# Altium schematic symbol library Resistor - Surface Mount - 0201.SchLib: 301 symbols (part 3 of 5)
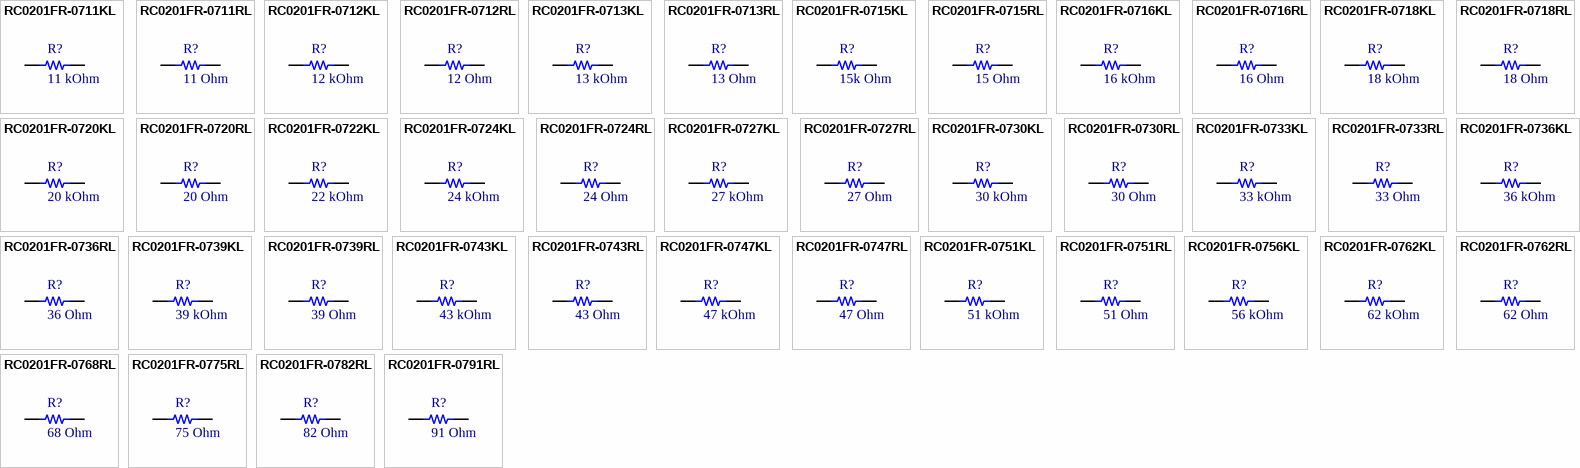
[diagram p9: symbols RC0201FR-0711KL to RC0201FR-0791RL]

## RC0201FR-0739KL
designator R?, comment 39 kOhm
RES 39K OHM 1% 1/20W 0201; Manufacturer: Yageo; Part Number: RC0201FR-0739KL; Power (Watt): 0.05W; ComponentLink1Description: Datasheet; ComponentLink1URL: https://www.yageo.com/upload/media/product/products/datasheet/rchip/PYu-RC_Group_51_RoHS_L_12.pdf; ComponentLink2Description: Digikey link; ComponentLink2URL: https://www.digikey.com/en/products/detail/yageo/RC0201FR-0739KL/5280501; ComponentLink3Description: LCSC link; ComponentLink3URL: https://lcsc.com/product-detail/Chip-Resistor-Surface-Mount_YAGEO-RC0201FR-0739KL_C163500.html?s_z=n_RC0201FR-0739KL; Value: 39 kOhm; Package: 0201 (0603 Metric); Tolerance: ±1%; Operating Temperature: -55°C ~ 125°C; Supplier 1: Digikey; Supplier Part Number 1: YAG2641CT-ND
footprint R0201
pins: 1, 2

## RC0201FR-0739RL
designator R?, comment 39 Ohm
RES 39 OHM 1% 1/20W 0201; Manufacturer: Yageo; Part Number: RC0201FR-0739RL; Power (Watt): 0.05W; ComponentLink1Description: Datasheet; ComponentLink1URL: https://www.yageo.com/upload/media/product/products/datasheet/rchip/PYu-RC_Group_51_RoHS_L_12.pdf; ComponentLink2Description: Digikey link; ComponentLink2URL: https://www.digikey.com/en/products/detail/yageo/RC0201FR-0739RL/5280503; ComponentLink3Description: LCSC link; ComponentLink3URL: https://lcsc.com/product-detail/Chip-Resistor-Surface-Mount_YAGEO-RC0201FR-0739RL_C138145.html?s_z=n_RC0201FR-0739RL; Value: 39 Ohm; Package: 0201 (0603 Metric); Tolerance: ±1%; Operating Temperature: -55°C ~ 125°C; Supplier 1: Future Electronics; Supplier Part Number 1: 8072244
footprint R0201
pins: 1, 2

## RC0201FR-0743KL
designator R?, comment 43 kOhm
RES 43K OHM 1% 1/20W 0201; Manufacturer: Yageo; Part Number: RC0201FR-0743KL; Power (Watt): 0.05W; ComponentLink1Description: Datasheet; ComponentLink1URL: https://www.yageo.com/upload/media/product/products/datasheet/rchip/PYu-RC_Group_51_RoHS_L_12.pdf; ComponentLink2Description: Digikey link; ComponentLink2URL: https://www.digikey.com/en/products/detail/yageo/RC0201FR-0743KL/5280533; ComponentLink3Description: LCSC link; ComponentLink3URL: https://lcsc.com/product-detail/Chip-Resistor-Surface-Mount_YAGEO-RC0201FR-0743KL_C138142.html?s_z=n_RC0201FR-0743KL; Value: 43 kOhm; Package: 0201 (0603 Metric); Tolerance: ±1%; Operating Temperature: -55°C ~ 125°C; Supplier 1: Digikey; Supplier Part Number 1: YAG2673CT-ND
footprint R0201
pins: 1, 2

## RC0201FR-0743RL
designator R?, comment 43 Ohm
RES 43 OHM 1% 1/20W 0201; Manufacturer: Yageo; Part Number: RC0201FR-0743RL; Power (Watt): 0.05W; ComponentLink1Description: Datasheet; ComponentLink1URL: https://www.yageo.com/upload/media/product/products/datasheet/rchip/PYu-RC_Group_51_RoHS_L_12.pdf; ComponentLink2Description: Digikey link; ComponentLink2URL: https://www.digikey.com/en/products/detail/yageo/RC0201FR-0743RL/5280535; ComponentLink3Description: LCSC link; ComponentLink3URL: https://lcsc.com/product-detail/Chip-Resistor-Surface-Mount_YAGEO-RC0201FR-0743RL_C295801.html?s_z=n_RC0201FR-0743RL; Value: 43 Ohm; Package: 0201 (0603 Metric); Tolerance: ±1%; Operating Temperature: -55°C ~ 125°C; Supplier 1: Digikey; Supplier Part Number 1: YAG2675CT-ND
footprint R0201
pins: 1, 2

## RC0201FR-0747KL
designator R?, comment 47 kOhm
RES 47K OHM 1% 1/20W 0201; Manufacturer: Yageo; Part Number: RC0201FR-0747KL; Power (Watt): 0.05W; ComponentLink1Description: Datasheet; ComponentLink1URL: https://www.yageo.com/upload/media/product/products/datasheet/rchip/PYu-RC_Group_51_RoHS_L_12.pdf; ComponentLink2Description: Digikey link; ComponentLink2URL: https://www.digikey.com/en/products/detail/yageo/RC0201FR-0747KL/3202409; ComponentLink3Description: LCSC link; ComponentLink3URL: https://lcsc.com/product-detail/Chip-Resistor-Surface-Mount_YAGEO-RC0201FR-0747KL_C138139.html?s_z=n_RC0201FR-0747KL; Value: 47 kOhm; Package: 0201 (0603 Metric); Tolerance: ±1%; Operating Temperature: -55°C ~ 125°C; Supplier 1: Digikey; Supplier Part Number 1: 311-47KMCT-ND
footprint R0201
pins: 1, 2

## RC0201FR-0747RL
designator R?, comment 47 Ohm
RES 47 OHM 1% 1/20W 0201; Manufacturer: Yageo; Part Number: RC0201FR-0747RL; Power (Watt): 0.05W; ComponentLink1Description: Datasheet; ComponentLink1URL: https://www.yageo.com/upload/media/product/products/datasheet/rchip/PYu-RC_Group_51_RoHS_L_12.pdf; ComponentLink2Description: Digikey link; ComponentLink2URL: https://www.digikey.com/en/products/detail/yageo/RC0201FR-0747RL/5280554; ComponentLink3Description: LCSC link; ComponentLink3URL: https://lcsc.com/product-detail/Chip-Resistor-Surface-Mount_YAGEO-RC0201FR-0747RL_C273279.html?s_z=n_RC0201FR-0747RL; Value: 47 Ohm; Package: 0201 (0603 Metric); Tolerance: ±1%; Operating Temperature: -55°C ~ 125°C; Supplier 1: Digikey; Supplier Part Number 1: YAG2694CT-ND
footprint R0201
pins: 1, 2

## RC0201FR-0751KL
designator R?, comment 51 kOhm
RES 51K OHM 1% 1/20W 0201; Manufacturer: Yageo; Part Number: RC0201FR-0751KL; Power (Watt): 0.05W; ComponentLink1Description: Datasheet; ComponentLink1URL: https://www.yageo.com/upload/media/product/products/datasheet/rchip/PYu-RC_Group_51_RoHS_L_12.pdf; ComponentLink2Description: Digikey link; ComponentLink2URL: https://www.digikey.com/en/products/detail/yageo/RC0201FR-0751KL/1948895; ComponentLink3Description: LCSC link; ComponentLink3URL: https://lcsc.com/product-detail/Chip-Resistor-Surface-Mount_YAGEO-RC0201FR-0751KL_C295806.html?s_z=n_RC0201FR-0751KL; Value: 51 kOhm; Package: 0201 (0603 Metric); Tolerance: ±1%; Operating Temperature: -55°C ~ 125°C; Supplier 1: Digikey; Supplier Part Number 1: 311-51.0KMCT-ND
footprint R0201
pins: 1, 2

## RC0201FR-0751RL
designator R?, comment 51 Ohm
RES 51 OHM 1% 1/20W 0201; Manufacturer: Yageo; Part Number: RC0201FR-0751RL; Power (Watt): 0.05W; ComponentLink1Description: Datasheet; ComponentLink1URL: https://www.yageo.com/upload/media/product/products/datasheet/rchip/PYu-RC_Group_51_RoHS_L_12.pdf; ComponentLink2Description: Digikey link; ComponentLink2URL: https://www.digikey.com/en/products/detail/yageo/RC0201FR-0751RL/3202413; ComponentLink3Description: LCSC link; ComponentLink3URL: https://lcsc.com/product-detail/Chip-Resistor-Surface-Mount_YAGEO-RC0201FR-0751RL_C163499.html?s_z=n_RC0201FR-0751RL; Value: 51 Ohm; Package: 0201 (0603 Metric); Tolerance: ±1%; Operating Temperature: -55°C ~ 125°C; Supplier 1: Digikey; Supplier Part Number 1: YAG2288CT-ND
footprint R0201
pins: 1, 2

## RC0201FR-0756KL
designator R?, comment 56 kOhm
RES 56K OHM 1% 1/20W 0201; Manufacturer: Yageo; Part Number: RC0201FR-0756KL; Power (Watt): 0.05W; ComponentLink1Description: Datasheet; ComponentLink1URL: https://www.yageo.com/upload/media/product/products/datasheet/rchip/PYu-RC_Group_51_RoHS_L_12.pdf; ComponentLink2Description: Digikey link; ComponentLink2URL: https://www.digikey.com/en/products/detail/yageo/RC0201FR-0756KL/5280592; ComponentLink3Description: LCSC link; ComponentLink3URL: https://lcsc.com/product-detail/Chip-Resistor-Surface-Mount_YAGEO-RC0201FR-0756KL_C474417.html?s_z=n_RC0201FR-0756KL; Value: 56 kOhm; Package: 0201 (0603 Metric); Tolerance: ±1%; Operating Temperature: -55°C ~ 125°C; Supplier 1: Digikey; Supplier Part Number 1: YAG2732CT-ND
footprint R0201
pins: 1, 2

## RC0201FR-0762KL
designator R?, comment 62 kOhm
RES 62K OHM 1% 1/20W 0201; Manufacturer: Yageo; Part Number: RC0201FR-0762KL; Power (Watt): 0.05W; ComponentLink1Description: Datasheet; ComponentLink1URL: https://www.yageo.com/upload/media/product/products/datasheet/rchip/PYu-RC_Group_51_RoHS_L_12.pdf; ComponentLink2Description: Digikey link; ComponentLink2URL: https://www.digikey.com/en/products/detail/yageo/RC0201FR-0762KL/5280614; ComponentLink3Description: LCSC link; ComponentLink3URL: https://lcsc.com/product-detail/Chip-Resistor-Surface-Mount_YAGEO-RC0201FR-0762KL_C295812.html?s_z=n_RC0201FR-0762KL; Value: 62 kOhm; Package: 0201 (0603 Metric); Tolerance: ±1%; Operating Temperature: -55°C ~ 125°C; Supplier 1: Future Electronics; Supplier Part Number 1: 1080538
footprint R0201
pins: 1, 2

## RC0201FR-0762RL
designator R?, comment 62 Ohm
RES 62 OHM 1% 1/20W 0201; Manufacturer: Yageo; Part Number: RC0201FR-0762RL; Power (Watt): 0.05W; ComponentLink1Description: Datasheet; ComponentLink1URL: https://www.yageo.com/upload/media/product/products/datasheet/rchip/PYu-RC_Group_51_RoHS_L_12.pdf; ComponentLink2Description: Digikey link; ComponentLink2URL: https://www.digikey.com/en/products/detail/yageo/RC0201FR-0762RL/5280615; ComponentLink3Description: LCSC link; ComponentLink3URL: https://lcsc.com/product-detail/Chip-Resistor-Surface-Mount_YAGEO-RC0201FR-0762RL_C295813.html?s_z=n_RC0201FR-0762RL; Value: 62 Ohm; Package: 0201 (0603 Metric); Tolerance: ±1%; Operating Temperature: -55°C ~ 125°C; Supplier 1: Arrow Electronics; Supplier Part Number 1: RC0201FR-0762RL
footprint R0201
pins: 1, 2

## RC0201FR-0768RL
designator R?, comment 68 Ohm
RES 68 OHM 1% 1/20W 0201; Manufacturer: Yageo; Part Number: RC0201FR-0768RL; Power (Watt): 0.05W; ComponentLink1Description: Datasheet; ComponentLink1URL: https://www.yageo.com/upload/media/product/products/datasheet/rchip/PYu-RC_Group_51_RoHS_L_12.pdf; ComponentLink2Description: Digikey link; ComponentLink2URL: https://www.digikey.com/en/products/detail/yageo/RC0201FR-0768RL/5280633; ComponentLink3Description: LCSC link; ComponentLink3URL: https://lcsc.com/product-detail/Chip-Resistor-Surface-Mount_YAGEO-RC0201FR-0768RL_C138127.html?s_z=n_RC0201FR-0768RL; Value: 68 Ohm; Package: 0201 (0603 Metric); Tolerance: ±1%; Operating Temperature: -55°C ~ 125°C; Supplier 1: Future Electronics; Supplier Part Number 1: 8744013
footprint R0201
pins: 1, 2

## RC0201FR-0775RL
designator R?, comment 75 Ohm
RES 75 OHM 1% 1/20W 0201; Manufacturer: Yageo; Part Number: RC0201FR-0775RL; Power (Watt): 0.05W; ComponentLink1Description: Datasheet; ComponentLink1URL: https://www.yageo.com/upload/media/product/products/datasheet/rchip/PYu-RC_Group_51_RoHS_L_12.pdf; ComponentLink2Description: Digikey link; ComponentLink2URL: https://www.digikey.com/en/products/detail/yageo/RC0201FR-0775RL/3202423; ComponentLink3Description: LCSC link; ComponentLink3URL: https://lcsc.com/product-detail/Chip-Resistor-Surface-Mount_YAGEO-RC0201FR-0775RL_C274878.html?s_z=n_RC0201FR-0775RL; Value: 75 Ohm; Package: 0201 (0603 Metric); Tolerance: ±1%; Operating Temperature: -55°C ~ 125°C; Supplier 1: Future Electronics; Supplier Part Number 1: 5106774
footprint R0201
pins: 1, 2

## RC0201FR-0782RL
designator R?, comment 82 Ohm
RES 82 OHM 1% 1/20W 0201; Manufacturer: Yageo; Part Number: RC0201FR-0782RL; Power (Watt): 0.05W; ComponentLink1Description: Datasheet; ComponentLink1URL: https://www.yageo.com/upload/media/product/products/datasheet/rchip/PYu-RC_Group_51_RoHS_L_12.pdf; ComponentLink2Description: Digikey link; ComponentLink2URL: https://www.digikey.com/en/products/detail/yageo/RC0201FR-0782RL/5280678; ComponentLink3Description: LCSC link; ComponentLink3URL: https://lcsc.com/product-detail/Chip-Resistor-Surface-Mount_YAGEO-RC0201FR-0782RL_C273281.html?s_z=n_RC0201FR-0782RL; Value: 82 Ohm; Package: 0201 (0603 Metric); Tolerance: ±1%; Operating Temperature: -55°C ~ 125°C; Supplier 1: Digikey; Supplier Part Number 1: YAG2818CT-ND
footprint R0201
pins: 1, 2

## RC0201FR-0791RL
designator R?, comment 91 Ohm
RES 91 OHM 1% 1/20W 0201; Manufacturer: Yageo; Part Number: RC0201FR-0791RL; Power (Watt): 0.05W; ComponentLink1Description: Datasheet; ComponentLink1URL: https://www.yageo.com/upload/media/product/products/datasheet/rchip/PYu-RC_Group_51_RoHS_L_12.pdf; ComponentLink2Description: Digikey link; ComponentLink2URL: https://www.digikey.com/en/products/detail/yageo/RC0201FR-0791RL/5280703; ComponentLink3Description: LCSC link; ComponentLink3URL: https://lcsc.com/product-detail/Chip-Resistor-Surface-Mount_YAGEO-RC0201FR-0791RL_C295820.html?s_z=n_RC0201FR-0791RL; Value: 91 Ohm; Package: 0201 (0603 Metric); Tolerance: ±1%; Operating Temperature: -55°C ~ 125°C; Supplier 1: Digikey; Supplier Part Number 1: YAG2843CT-ND
footprint R0201
pins: 1, 2

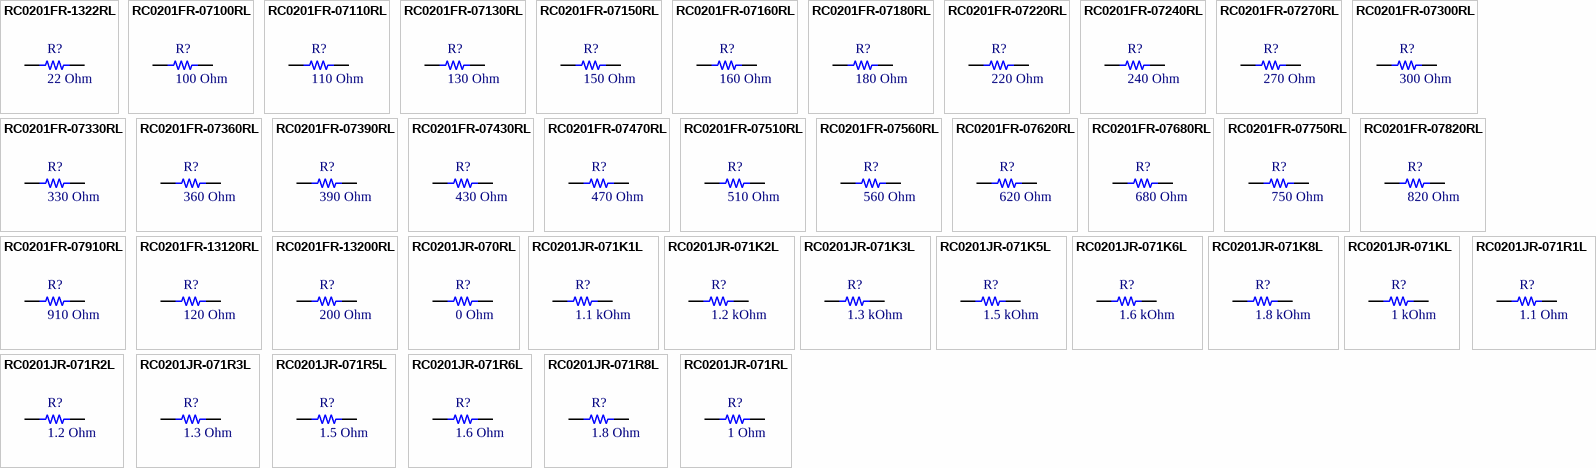
[diagram p4: symbols RC0201FR-1322RL to RC0201JR-071RL]

## RC0201FR-1322RL
designator R?, comment 22 Ohm
RES 22 OHM 1% 1/20W 0201; Manufacturer: Yageo; Part Number: RC0201FR-1322RL; Power (Watt): 0.05W; ComponentLink1Description: Datasheet; ComponentLink1URL: https://www.yageo.com/upload/media/product/products/datasheet/rchip/PYu-RC_Group_51_RoHS_L_12.pdf; ComponentLink2Description: Digikey link; ComponentLink2URL: https://www.digikey.com/en/products/detail/yageo/RC0201FR-1322RL/17013277; ComponentLink3Description: LCSC link; ComponentLink3URL: *; Value: 22 Ohm; Package: 0201 (0603 Metric); Tolerance: ±1%; Operating Temperature: -55°C ~ 125°C; Supplier 1: Digikey; Supplier Part Number 1: 13-RC0201FR-1322RLCT-ND
footprint R0201
pins: 1, 2

## RC0201FR-07100RL
designator R?, comment 100 Ohm
RES 100 OHM 1% 1/20W 0201; Manufacturer: Yageo; Part Number: RC0201FR-07100RL; Power (Watt): 0.05W; ComponentLink1Description: Datasheet; ComponentLink1URL: https://www.yageo.com/upload/media/product/products/datasheet/rchip/PYu-RC_Group_51_RoHS_L_12.pdf; ComponentLink2Description: Digikey link; ComponentLink2URL: https://www.digikey.com/en/products/detail/yageo/RC0201FR-07100RL/1948860; ComponentLink3Description: LCSC link; ComponentLink3URL: https://lcsc.com/product-detail/Chip-Resistor-Surface-Mount_YAGEO-RC0201FR-07100RL_C77623.html?s_z=n_RC0201FR-07100RL; Value: 100 Ohm; Package: 0201 (0603 Metric); Tolerance: ±1%; Operating Temperature: -55°C ~ 125°C; Supplier 1: Future Electronics; Supplier Part Number 1: 6073498
footprint R0201
pins: 1, 2

## RC0201FR-07110RL
designator R?, comment 110 Ohm
RES 110 OHM 1% 1/20W 0201; Manufacturer: Yageo; Part Number: RC0201FR-07110RL; Power (Watt): 0.05W; ComponentLink1Description: Datasheet; ComponentLink1URL: https://www.yageo.com/upload/media/product/products/datasheet/rchip/PYu-RC_Group_51_RoHS_L_12.pdf; ComponentLink2Description: Digikey link; ComponentLink2URL: https://www.digikey.com/en/products/detail/yageo/RC0201FR-07110RL/5280239; ComponentLink3Description: LCSC link; ComponentLink3URL: https://lcsc.com/product-detail/Chip-Resistor-Surface-Mount_YAGEO-RC0201FR-07110RL_C295716.html?s_z=n_RC0201FR-07110RL; Value: 110 Ohm; Package: 0201 (0603 Metric); Tolerance: ±1%; Operating Temperature: -55°C ~ 125°C; Supplier 1: Digikey; Supplier Part Number 1: YAG2379CT-ND
footprint R0201
pins: 1, 2

## RC0201FR-07130RL
designator R?, comment 130 Ohm
RES 130 OHM 1% 1/20W 0201; Manufacturer: Yageo; Part Number: RC0201FR-07130RL; Power (Watt): 0.05W; ComponentLink1Description: Datasheet; ComponentLink1URL: https://www.yageo.com/upload/media/product/products/datasheet/rchip/PYu-RC_Group_51_RoHS_L_12.pdf; ComponentLink2Description: Digikey link; ComponentLink2URL: https://www.digikey.com/en/products/detail/yageo/RC0201FR-07130RL/5280254; ComponentLink3Description: LCSC link; ComponentLink3URL: https://lcsc.com/product-detail/Chip-Resistor-Surface-Mount_YAGEO-RC0201FR-07130RL_C273314.html?s_z=n_RC0201FR-07130RL; Value: 130 Ohm; Package: 0201 (0603 Metric); Tolerance: ±1%; Operating Temperature: -55°C ~ 125°C; Supplier 1: Digikey; Supplier Part Number 1: YAG2394CT-ND
footprint R0201
pins: 1, 2

## RC0201FR-07150RL
designator R?, comment 150 Ohm
RES 150 OHM 1% 1/20W 0201; Manufacturer: Yageo; Part Number: RC0201FR-07150RL; Power (Watt): 0.05W; ComponentLink1Description: Datasheet; ComponentLink1URL: https://www.yageo.com/upload/media/product/products/datasheet/rchip/PYu-RC_Group_51_RoHS_L_12.pdf; ComponentLink2Description: Digikey link; ComponentLink2URL: https://www.digikey.com/en/products/detail/yageo/RC0201FR-07150RL/3202385; ComponentLink3Description: LCSC link; ComponentLink3URL: https://lcsc.com/product-detail/Chip-Resistor-Surface-Mount_YAGEO-RC0201FR-07150RL_C295773.html?s_z=n_RC0201FR-07150RL; Value: 150 Ohm; Package: 0201 (0603 Metric); Tolerance: ±1%; Operating Temperature: -55°C ~ 125°C; Supplier 1: Future Electronics; Supplier Part Number 1: 6980106
footprint R0201
pins: 1, 2

## RC0201FR-07160RL
designator R?, comment 160 Ohm
RES 160 OHM 1% 1/20W 0201; Manufacturer: Yageo; Part Number: RC0201FR-07160RL; Power (Watt): 0.05W; ComponentLink1Description: Datasheet; ComponentLink1URL: https://www.yageo.com/upload/media/product/products/datasheet/rchip/PYu-RC_Group_51_RoHS_L_12.pdf; ComponentLink2Description: Digikey link; ComponentLink2URL: https://www.digikey.com/en/products/detail/yageo/RC0201FR-07160RL/5280287; ComponentLink3Description: LCSC link; ComponentLink3URL: https://lcsc.com/product-detail/Chip-Resistor-Surface-Mount_YAGEO-RC0201FR-07160RL_C295775.html?s_z=n_RC0201FR-07160RL; Value: 160 Ohm; Package: 0201 (0603 Metric); Tolerance: ±1%; Operating Temperature: -55°C ~ 125°C; Supplier 1: Future Electronics; Supplier Part Number 1: 7109743
footprint R0201
pins: 1, 2

## RC0201FR-07180RL
designator R?, comment 180 Ohm
RES 180 OHM 1% 1/20W 0201; Manufacturer: Yageo; Part Number: RC0201FR-07180RL; Power (Watt): 0.05W; ComponentLink1Description: Datasheet; ComponentLink1URL: https://www.yageo.com/upload/media/product/products/datasheet/rchip/PYu-RC_Group_51_RoHS_L_12.pdf; ComponentLink2Description: Digikey link; ComponentLink2URL: https://www.digikey.com/en/products/detail/yageo/RC0201FR-07180RL/5280310; ComponentLink3Description: LCSC link; ComponentLink3URL: https://lcsc.com/product-detail/Chip-Resistor-Surface-Mount_YAGEO-RC0201FR-07180RL_C138168.html?s_z=n_RC0201FR-07180RL; Value: 180 Ohm; Package: 0201 (0603 Metric); Tolerance: ±1%; Operating Temperature: -55°C ~ 125°C; Supplier 1: Digikey; Supplier Part Number 1: YAG2450CT-ND
footprint R0201
pins: 1, 2

## RC0201FR-07220RL
designator R?, comment 220 Ohm
RES 220 OHM 1% 1/20W 0201; Manufacturer: Yageo; Part Number: RC0201FR-07220RL; Power (Watt): 0.05W; ComponentLink1Description: Datasheet; ComponentLink1URL: https://www.yageo.com/upload/media/product/products/datasheet/rchip/PYu-RC_Group_51_RoHS_L_12.pdf; ComponentLink2Description: Digikey link; ComponentLink2URL: https://www.digikey.com/en/products/detail/yageo/RC0201FR-07220RL/5280369; ComponentLink3Description: LCSC link; ComponentLink3URL: https://lcsc.com/product-detail/Chip-Resistor-Surface-Mount_YAGEO-RC0201FR-07220RL_C274342.html?s_z=n_RC0201FR-07220RL; Value: 220 Ohm; Package: 0201 (0603 Metric); Tolerance: ±1%; Operating Temperature: -55°C ~ 125°C; Supplier 1: Future Electronics; Supplier Part Number 1: 1512474
footprint R0201
pins: 1, 2

## RC0201FR-07240RL
designator R?, comment 240 Ohm
RES 240 OHM 1% 1/20W 0201; Manufacturer: Yageo; Part Number: RC0201FR-07240RL; Power (Watt): 0.05W; ComponentLink1Description: Datasheet; ComponentLink1URL: https://www.yageo.com/upload/media/product/products/datasheet/rchip/PYu-RC_Group_51_RoHS_L_12.pdf; ComponentLink2Description: Digikey link; ComponentLink2URL: https://www.digikey.com/en/products/detail/yageo/RC0201FR-07240RL/5280388; ComponentLink3Description: LCSC link; ComponentLink3URL: https://lcsc.com/product-detail/Chip-Resistor-Surface-Mount_YAGEO-RC0201FR-07240RL_C155745.html?s_z=n_RC0201FR-07240RL; Value: 240 Ohm; Package: 0201 (0603 Metric); Tolerance: ±1%; Operating Temperature: -55°C ~ 125°C; Supplier 1: Future Electronics; Supplier Part Number 1: 3032089
footprint R0201
pins: 1, 2

## RC0201FR-07270RL
designator R?, comment 270 Ohm
RES 270 OHM 1% 1/20W 0201; Manufacturer: Yageo; Part Number: RC0201FR-07270RL; Power (Watt): 0.05W; ComponentLink1Description: Datasheet; ComponentLink1URL: https://www.yageo.com/upload/media/product/products/datasheet/rchip/PYu-RC_Group_51_RoHS_L_12.pdf; ComponentLink2Description: Digikey link; ComponentLink2URL: https://www.digikey.com/en/products/detail/yageo/RC0201FR-07270RL/3202398; ComponentLink3Description: LCSC link; ComponentLink3URL: https://lcsc.com/product-detail/Chip-Resistor-Surface-Mount_YAGEO-RC0201FR-07270RL_C295793.html?s_z=n_RC0201FR-07270RL; Value: 270 Ohm; Package: 0201 (0603 Metric); Tolerance: ±1%; Operating Temperature: -55°C ~ 125°C; Supplier 1: Future Electronics; Supplier Part Number 1: 9079786
footprint R0201
pins: 1, 2

## RC0201FR-07300RL
designator R?, comment 300 Ohm
RES 300 OHM 1% 1/20W 0201; Manufacturer: Yageo; Part Number: RC0201FR-07300RL; Power (Watt): 0.05W; ComponentLink1Description: Datasheet; ComponentLink1URL: https://www.yageo.com/upload/media/product/products/datasheet/rchip/PYu-RC_Group_51_RoHS_L_12.pdf; ComponentLink2Description: Digikey link; ComponentLink2URL: https://www.digikey.com/en/products/detail/yageo/RC0201FR-07300RL/3202401; ComponentLink3Description: LCSC link; ComponentLink3URL: https://lcsc.com/product-detail/Chip-Resistor-Surface-Mount_YAGEO-RC0201FR-07300RL_C273296.html?s_z=n_RC0201FR-07300RL; Value: 300 Ohm; Package: 0201 (0603 Metric); Tolerance: ±1%; Operating Temperature: -55°C ~ 125°C; Supplier 1: Future Electronics; Supplier Part Number 1: 2107900
footprint R0201
pins: 1, 2

## RC0201FR-07330RL
designator R?, comment 330 Ohm
RES 330 OHM 1% 1/20W 0201; Manufacturer: Yageo; Part Number: RC0201FR-07330RL; Power (Watt): 0.05W; ComponentLink1Description: Datasheet; ComponentLink1URL: https://www.yageo.com/upload/media/product/products/datasheet/rchip/PYu-RC_Group_51_RoHS_L_12.pdf; ComponentLink2Description: Digikey link; ComponentLink2URL: https://www.digikey.com/en/products/detail/yageo/RC0201FR-07330RL/5280464; ComponentLink3Description: LCSC link; ComponentLink3URL: https://lcsc.com/product-detail/Chip-Resistor-Surface-Mount_YAGEO-RC0201FR-07330RL_C274872.html?s_z=n_RC0201FR-07330RL; Value: 330 Ohm; Package: 0201 (0603 Metric); Tolerance: ±1%; Operating Temperature: -55°C ~ 125°C; Supplier 1: Future Electronics; Supplier Part Number 1: 4066867
footprint R0201
pins: 1, 2

## RC0201FR-07360RL
designator R?, comment 360 Ohm
RES 360 OHM 1% 1/20W 0201; Manufacturer: Yageo; Part Number: RC0201FR-07360RL; Power (Watt): 0.05W; ComponentLink1Description: Datasheet; ComponentLink1URL: https://www.yageo.com/upload/media/product/products/datasheet/rchip/PYu-RC_Group_51_RoHS_L_12.pdf; ComponentLink2Description: Digikey link; ComponentLink2URL: https://www.digikey.com/en/products/detail/yageo/RC0201FR-07360RL/5280482; ComponentLink3Description: LCSC link; ComponentLink3URL: https://lcsc.com/product-detail/Chip-Resistor-Surface-Mount_YAGEO-RC0201FR-07360RL_C138147.html?s_z=n_RC0201FR-07360RL; Value: 360 Ohm; Package: 0201 (0603 Metric); Tolerance: ±1%; Operating Temperature: -55°C ~ 125°C; Supplier 1: Digikey; Supplier Part Number 1: YAG2622CT-ND
footprint R0201
pins: 1, 2

## RC0201FR-07390RL
designator R?, comment 390 Ohm
RES 390 OHM 1% 1/20W 0201; Manufacturer: Yageo; Part Number: RC0201FR-07390RL; Power (Watt): 0.05W; ComponentLink1Description: Datasheet; ComponentLink1URL: https://www.yageo.com/upload/media/product/products/datasheet/rchip/PYu-RC_Group_51_RoHS_L_12.pdf; ComponentLink2Description: Digikey link; ComponentLink2URL: https://www.digikey.com/en/products/detail/yageo/RC0201FR-07390RL/3202404; ComponentLink3Description: LCSC link; ComponentLink3URL: https://lcsc.com/product-detail/Chip-Resistor-Surface-Mount_YAGEO-RC0201FR-07390RL_C295797.html?s_z=n_RC0201FR-07390RL; Value: 390 Ohm; Package: 0201 (0603 Metric); Tolerance: ±1%; Operating Temperature: -55°C ~ 125°C; Supplier 1: Digikey; Supplier Part Number 1: YAG2283CT-ND
footprint R0201
pins: 1, 2

## RC0201FR-07430RL
designator R?, comment 430 Ohm
RES 430 OHM 1% 1/20W 0201; Manufacturer: Yageo; Part Number: RC0201FR-07430RL; Power (Watt): 0.05W; ComponentLink1Description: Datasheet; ComponentLink1URL: https://www.yageo.com/upload/media/product/products/datasheet/rchip/PYu-RC_Group_51_RoHS_L_12.pdf; ComponentLink2Description: Digikey link; ComponentLink2URL: https://www.digikey.com/en/products/detail/yageo/RC0201FR-07430RL/5280529; ComponentLink3Description: LCSC link; ComponentLink3URL: https://lcsc.com/product-detail/Chip-Resistor-Surface-Mount_YAGEO-RC0201FR-07430RL_C295800.html?s_z=n_RC0201FR-07430RL; Value: 430 Ohm; Package: 0201 (0603 Metric); Tolerance: ±1%; Operating Temperature: -55°C ~ 125°C; Supplier 1: Future Electronics; Supplier Part Number 1: 7070103
footprint R0201
pins: 1, 2

## RC0201FR-07470RL
designator R?, comment 470 Ohm
RES 470 OHM 1% 1/20W 0201; Manufacturer: Yageo; Part Number: RC0201FR-07470RL; Power (Watt): 0.05W; ComponentLink1Description: Datasheet; ComponentLink1URL: https://www.yageo.com/upload/media/product/products/datasheet/rchip/PYu-RC_Group_51_RoHS_L_12.pdf; ComponentLink2Description: Digikey link; ComponentLink2URL: https://www.digikey.com/en/products/detail/yageo/RC0201FR-07470RL/5280549; ComponentLink3Description: LCSC link; ComponentLink3URL: https://lcsc.com/product-detail/Chip-Resistor-Surface-Mount_YAGEO-RC0201FR-07470RL_C295802.html?s_z=n_RC0201FR-07470RL; Value: 470 Ohm; Package: 0201 (0603 Metric); Tolerance: ±1%; Operating Temperature: -55°C ~ 125°C; Supplier 1: Future Electronics; Supplier Part Number 1: 1050052
footprint R0201
pins: 1, 2

## RC0201FR-07510RL
designator R?, comment 510 Ohm
RES 510 OHM 1% 1/20W 0201; Manufacturer: Yageo; Part Number: RC0201FR-07510RL; Power (Watt): 0.05W; ComponentLink1Description: Datasheet; ComponentLink1URL: https://www.yageo.com/upload/media/product/products/datasheet/rchip/PYu-RC_Group_51_RoHS_L_12.pdf; ComponentLink2Description: Digikey link; ComponentLink2URL: https://www.digikey.com/en/products/detail/yageo/RC0201FR-07510RL/5280574; ComponentLink3Description: LCSC link; ComponentLink3URL: https://lcsc.com/product-detail/Chip-Resistor-Surface-Mount_YAGEO-RC0201FR-07510RL_C57784.html?s_z=n_RC0201FR-07510RL; Value: 510 Ohm; Package: 0201 (0603 Metric); Tolerance: ±1%; Operating Temperature: -55°C ~ 125°C; Supplier 1: Future Electronics; Supplier Part Number 1: 9020508
footprint R0201
pins: 1, 2

## RC0201FR-07560RL
designator R?, comment 560 Ohm
RES 560 OHM 1% 1/20W 0201; Manufacturer: Yageo; Part Number: RC0201FR-07560RL; Power (Watt): 0.05W; ComponentLink1Description: Datasheet; ComponentLink1URL: https://www.yageo.com/upload/media/product/products/datasheet/rchip/PYu-RC_Group_51_RoHS_L_12.pdf; ComponentLink2Description: Digikey link; ComponentLink2URL: https://www.digikey.com/en/products/detail/yageo/RC0201FR-07560RL/3202414; ComponentLink3Description: LCSC link; ComponentLink3URL: https://lcsc.com/product-detail/Chip-Resistor-Surface-Mount_YAGEO-RC0201FR-07560RL_C295808.html?s_z=n_RC0201FR-07560RL; Value: 560 Ohm; Package: 0201 (0603 Metric); Tolerance: ±1%; Operating Temperature: -55°C ~ 125°C; Supplier 1: Future Electronics; Supplier Part Number 1: 6482293
footprint R0201
pins: 1, 2

## RC0201FR-07620RL
designator R?, comment 620 Ohm
RES 620 OHM 1% 1/20W 0201; Manufacturer: Yageo; Part Number: RC0201FR-07620RL; Power (Watt): 0.05W; ComponentLink1Description: Datasheet; ComponentLink1URL: https://www.yageo.com/upload/media/product/products/datasheet/rchip/PYu-RC_Group_51_RoHS_L_12.pdf; ComponentLink2Description: Digikey link; ComponentLink2URL: https://www.digikey.com/en/products/detail/yageo/RC0201FR-07620RL/3202419; ComponentLink3Description: LCSC link; ComponentLink3URL: https://lcsc.com/product-detail/Chip-Resistor-Surface-Mount_YAGEO-RC0201FR-07620RL_C295811.html?s_z=n_RC0201FR-07620RL; Value: 620 Ohm; Package: 0201 (0603 Metric); Tolerance: ±1%; Operating Temperature: -55°C ~ 125°C; Supplier 1: Future Electronics; Supplier Part Number 1: 1080082
footprint R0201
pins: 1, 2

## RC0201FR-07680RL
designator R?, comment 680 Ohm
RES 680 OHM 1% 1/20W 0201; Manufacturer: Yageo; Part Number: RC0201FR-07680RL; Power (Watt): 0.05W; ComponentLink1Description: Datasheet; ComponentLink1URL: https://www.yageo.com/upload/media/product/products/datasheet/rchip/PYu-RC_Group_51_RoHS_L_12.pdf; ComponentLink2Description: Digikey link; ComponentLink2URL: https://www.digikey.com/en/products/detail/yageo/RC0201FR-07680RL/5280629; ComponentLink3Description: LCSC link; ComponentLink3URL: https://lcsc.com/product-detail/Chip-Resistor-Surface-Mount_YAGEO-RC0201FR-07680RL_C274876.html?s_z=n_RC0201FR-07680RL; Value: 680 Ohm; Package: 0201 (0603 Metric); Tolerance: ±1%; Operating Temperature: -55°C ~ 125°C; Supplier 1: Avnet; Supplier Part Number 1: 49AK1142
footprint R0201
pins: 1, 2

## RC0201FR-07750RL
designator R?, comment 750 Ohm
RES 750 OHM 1% 1/20W 0201; Manufacturer: Yageo; Part Number: RC0201FR-07750RL; Power (Watt): 0.05W; ComponentLink1Description: Datasheet; ComponentLink1URL: https://www.yageo.com/upload/media/product/products/datasheet/rchip/PYu-RC_Group_51_RoHS_L_12.pdf; ComponentLink2Description: Digikey link; ComponentLink2URL: https://www.digikey.com/en/products/detail/yageo/RC0201FR-07750RL/5280654; ComponentLink3Description: LCSC link; ComponentLink3URL: https://lcsc.com/product-detail/Chip-Resistor-Surface-Mount_YAGEO-RC0201FR-07750RL_C138124.html?s_z=n_RC0201FR-07750RL; Value: 750 Ohm; Package: 0201 (0603 Metric); Tolerance: ±1%; Operating Temperature: -55°C ~ 125°C; Supplier 1: Future Electronics; Supplier Part Number 1: 5069571
footprint R0201
pins: 1, 2

## RC0201FR-07820RL
designator R?, comment 820 Ohm
RES 820 OHM 1% 1/20W 0201; Manufacturer: Yageo; Part Number: RC0201FR-07820RL; Power (Watt): 0.05W; ComponentLink1Description: Datasheet; ComponentLink1URL: https://www.yageo.com/upload/media/product/products/datasheet/rchip/PYu-RC_Group_51_RoHS_L_12.pdf; ComponentLink2Description: Digikey link; ComponentLink2URL: https://www.digikey.com/en/products/detail/yageo/RC0201FR-07820RL/3202424; ComponentLink3Description: LCSC link; ComponentLink3URL: https://lcsc.com/product-detail/Chip-Resistor-Surface-Mount_YAGEO-RC0201FR-07820RL_C155736.html?s_z=n_RC0201FR-07820RL; Value: 820 Ohm; Package: 0201 (0603 Metric); Tolerance: ±1%; Operating Temperature: -55°C ~ 125°C; Supplier 1: Digikey; Supplier Part Number 1: YAG2352CT-ND
footprint R0201
pins: 1, 2

## RC0201FR-07910RL
designator R?, comment 910 Ohm
RES 910 OHM 1% 1/20W 0201; Manufacturer: Yageo; Part Number: RC0201FR-07910RL; Power (Watt): 0.05W; ComponentLink1Description: Datasheet; ComponentLink1URL: https://www.yageo.com/upload/media/product/products/datasheet/rchip/PYu-RC_Group_51_RoHS_L_12.pdf; ComponentLink2Description: Digikey link; ComponentLink2URL: https://www.digikey.com/en/products/detail/yageo/RC0201FR-07910RL/5280701; ComponentLink3Description: LCSC link; ComponentLink3URL: https://lcsc.com/product-detail/Chip-Resistor-Surface-Mount_YAGEO-RC0201FR-07910RL_C295819.html?s_z=n_RC0201FR-07910RL; Value: 910 Ohm; Package: 0201 (0603 Metric); Tolerance: ±1%; Operating Temperature: -55°C ~ 125°C; Supplier 1: Digikey; Supplier Part Number 1: YAG2841CT-ND
footprint R0201
pins: 1, 2

## RC0201FR-13120RL
designator R?, comment 120 Ohm
RES 120 OHM 1% 1/20W 0201; Manufacturer: Yageo; Part Number: RC0201FR-13120RL; Power (Watt): 0.05W; ComponentLink1Description: Datasheet; ComponentLink1URL: https://www.yageo.com/upload/media/product/products/datasheet/rchip/PYu-RC_Group_51_RoHS_L_12.pdf; ComponentLink2Description: Digikey link; ComponentLink2URL: https://www.digikey.com/en/products/detail/yageo/RC0201FR-13120RL/17012478; ComponentLink3Description: LCSC link; ComponentLink3URL: https://lcsc.com/product-detail/Chip-Resistor-Surface-Mount_YAGEO-RC0201FR-13120RL_C6638051.html?s_z=n_RC0201FR-13120RL; Value: 120 Ohm; Package: 0201 (0603 Metric); Tolerance: ±1%; Operating Temperature: -55°C ~ 125°C; Supplier 1: Digikey; Supplier Part Number 1: 13-RC0201FR-13120RLCT-ND
footprint R0201
pins: 1, 2

## RC0201FR-13200RL
designator R?, comment 200 Ohm
RES 200 OHM 1% 1/20W 0201; Manufacturer: Yageo; Part Number: RC0201FR-13200RL; Power (Watt): 0.05W; ComponentLink1Description: Datasheet; ComponentLink1URL: https://www.yageo.com/upload/media/product/products/datasheet/rchip/PYu-RC_Group_51_RoHS_L_12.pdf; ComponentLink2Description: Digikey link; ComponentLink2URL: https://www.digikey.com/en/products/detail/yageo/RC0201FR-13200RL/17011447; ComponentLink3Description: LCSC link; ComponentLink3URL: https://lcsc.com/product-detail/Chip-Resistor-Surface-Mount_YAGEO-RC0201FR-13200RL_C5716615.html?s_z=n_RC0201FR-13200RL; Value: 200 Ohm; Package: 0201 (0603 Metric); Tolerance: ±1%; Operating Temperature: -55°C ~ 125°C; Supplier 1: Digikey; Supplier Part Number 1: 13-RC0201FR-13200RLCT-ND
footprint R0201
pins: 1, 2

## RC0201JR-070RL
designator R?, comment 0 Ohm
RES 0 OHM JUMPER 1/20W 0201; Manufacturer: Yageo; Part Number: RC0201JR-070RL; Tolerance: ±5%; Power (Watt): 50mW; Value: 0 Ohm; Package: 0201 (0603 Metric); Operating Temperature: -55℃~+125℃; Supplier 1: Future Electronics; Supplier Part Number 1: 9983388; ComponentLink1Description: Datasheet; ComponentLink1URL: https://www.yageo.com/upload/media/product/products/datasheet/rchip/PYu-RC_Group_51_RoHS_L_12.pdf; ComponentLink2Description: Digikey link; ComponentLink2URL: https://www.digikey.com/en/products/detail/yageo/RC0201JR-070RL/1948898?s=N4IgTCBcDaIEoGEAMYkEYBScC0SDsScAMiALoC%2BQA; ComponentLink3Description: LCSC link; ComponentLink3URL: https://lcsc.com/product-detail/Chip-Resistor-Surface-Mount_YAGEO-RC0201JR-070RL_C106228.html?s_z=n_0R%25200201%2520resistor%2520yageo
footprint R0201
pins: 1, 2

## RC0201JR-071K1L
designator R?, comment 1.1 kOhm
RES 1.1K OHM 5% 1/20W 0201; Manufacturer: Yageo; Part Number: RC0201JR-071K1L; Power (Watt): 0.05W; ComponentLink1Description: Datasheet; ComponentLink1URL: https://www.yageo.com/upload/media/product/products/datasheet/rchip/PYu-RC_Group_51_RoHS_L_12.pdf; ComponentLink2Description: Digikey link; ComponentLink2URL: https://www.digikey.com/en/products/detail/yageo/RC0201JR-071K1L/1948916; ComponentLink3Description: LCSC link; ComponentLink3URL: https://lcsc.com/product-detail/Chip-Resistor-Surface-Mount_YAGEO-RC0201JR-071K1L_C295840.html?s_z=n_RC0201JR-071K1L; Value: 1.1 kOhm; Package: 0201 (0603 Metric); Tolerance: ±5%; Operating Temperature: -55°C ~ 125°C; Supplier 1: Digikey; Supplier Part Number 1: 311-1.1KNCT-ND
footprint R0201
pins: 1, 2

## RC0201JR-071K2L
designator R?, comment 1.2 kOhm
RES 1.2K OHM 5% 1/20W 0201; Manufacturer: Yageo; Part Number: RC0201JR-071K2L; Power (Watt): 0.05W; ComponentLink1Description: Datasheet; ComponentLink1URL: https://www.yageo.com/upload/media/product/products/datasheet/rchip/PYu-RC_Group_51_RoHS_L_12.pdf; ComponentLink2Description: Digikey link; ComponentLink2URL: https://www.digikey.com/en/products/detail/yageo/RC0201JR-071K2L/1948917; ComponentLink3Description: LCSC link; ComponentLink3URL: https://lcsc.com/product-detail/Chip-Resistor-Surface-Mount_YAGEO-RC0201JR-071K2L_C274882.html?s_z=n_RC0201JR-071K2L; Value: 1.2 kOhm; Package: 0201 (0603 Metric); Tolerance: ±5%; Operating Temperature: -55°C ~ 125°C; Supplier 1: Digikey; Supplier Part Number 1: 311-1.2KNCT-ND
footprint R0201
pins: 1, 2

## RC0201JR-071K3L
designator R?, comment 1.3 kOhm
RES 1.3K OHM 5% 1/20W 0201; Manufacturer: Yageo; Part Number: RC0201JR-071K3L; Power (Watt): 0.05W; ComponentLink1Description: Datasheet; ComponentLink1URL: https://www.yageo.com/upload/media/product/products/datasheet/rchip/PYu-RC_Group_51_RoHS_L_12.pdf; ComponentLink2Description: Digikey link; ComponentLink2URL: https://www.digikey.com/en/products/detail/yageo/RC0201JR-071K3L/1948918; ComponentLink3Description: LCSC link; ComponentLink3URL: https://lcsc.com/product-detail/Chip-Resistor-Surface-Mount_YAGEO-RC0201JR-071K3L_C295841.html?s_z=n_RC0201JR-071K3L; Value: 1.3 kOhm; Package: 0201 (0603 Metric); Tolerance: ±5%; Operating Temperature: -55°C ~ 125°C; Supplier 1: Digikey; Supplier Part Number 1: 13-RC0201JR-071K3LTR-ND
footprint R0201
pins: 1, 2

## RC0201JR-071K5L
designator R?, comment 1.5 kOhm
RES 1.5K OHM 5% 1/20W 0201; Manufacturer: Yageo; Part Number: RC0201JR-071K5L; Power (Watt): 0.05W; ComponentLink1Description: Datasheet; ComponentLink1URL: https://www.yageo.com/upload/media/product/products/datasheet/rchip/PYu-RC_Group_51_RoHS_L_12.pdf; ComponentLink2Description: Digikey link; ComponentLink2URL: https://www.digikey.com/en/products/detail/yageo/RC0201JR-071K5L/1948919; ComponentLink3Description: LCSC link; ComponentLink3URL: https://lcsc.com/product-detail/Chip-Resistor-Surface-Mount_YAGEO-RC0201JR-071K5L_C163498.html?s_z=n_RC0201JR-071K5L; Value: 1.5 kOhm; Package: 0201 (0603 Metric); Tolerance: ±5%; Operating Temperature: -55°C ~ 125°C; Supplier 1: Future Electronics; Supplier Part Number 1: 8695934
footprint R0201
pins: 1, 2

## RC0201JR-071K6L
designator R?, comment 1.6 kOhm
RES 1.6K OHM 5% 1/20W 0201; Manufacturer: Yageo; Part Number: RC0201JR-071K6L; Power (Watt): 0.05W; ComponentLink1Description: Datasheet; ComponentLink1URL: https://www.yageo.com/upload/media/product/products/datasheet/rchip/PYu-RC_Group_51_RoHS_L_12.pdf; ComponentLink2Description: Digikey link; ComponentLink2URL: https://www.digikey.com/en/products/detail/yageo/RC0201JR-071K6L/1948920; ComponentLink3Description: LCSC link; ComponentLink3URL: https://lcsc.com/product-detail/Chip-Resistor-Surface-Mount_YAGEO-RC0201JR-071K6L_C138115.html?s_z=n_RC0201JR-071K6L; Value: 1.6 kOhm; Package: 0201 (0603 Metric); Tolerance: ±5%; Operating Temperature: -55°C ~ 125°C; Supplier 1: Digikey; Supplier Part Number 1: 13-RC0201JR-071K6LCT-ND
footprint R0201
pins: 1, 2

## RC0201JR-071K8L
designator R?, comment 1.8 kOhm
RES 1.8K OHM 5% 1/20W 0201; Manufacturer: Yageo; Part Number: RC0201JR-071K8L; Power (Watt): 0.05W; ComponentLink1Description: Datasheet; ComponentLink1URL: https://www.yageo.com/upload/media/product/products/datasheet/rchip/PYu-RC_Group_51_RoHS_L_12.pdf; ComponentLink2Description: Digikey link; ComponentLink2URL: https://www.digikey.com/en/products/detail/yageo/RC0201JR-071K8L/1948921; ComponentLink3Description: LCSC link; ComponentLink3URL: https://lcsc.com/product-detail/Chip-Resistor-Surface-Mount_YAGEO-RC0201JR-071K8L_C138114.html?s_z=n_RC0201JR-071K8L; Value: 1.8 kOhm; Package: 0201 (0603 Metric); Tolerance: ±5%; Operating Temperature: -55°C ~ 125°C; Supplier 1: Digikey; Supplier Part Number 1: 311-1.8KNCT-ND
footprint R0201
pins: 1, 2

## RC0201JR-071KL
designator R?, comment 1 kOhm
RES 1K OHM 5% 1/20W 0201; Manufacturer: Yageo; Part Number: RC0201JR-071KL; Power (Watt): 0.05W; ComponentLink1Description: Datasheet; ComponentLink1URL: https://www.yageo.com/upload/media/product/products/datasheet/rchip/PYu-RC_Group_51_RoHS_L_12.pdf; ComponentLink2Description: Digikey link; ComponentLink2URL: https://www.digikey.com/en/products/detail/yageo/RC0201JR-071KL/1948922; ComponentLink3Description: LCSC link; ComponentLink3URL: https://lcsc.com/product-detail/Chip-Resistor-Surface-Mount_YAGEO-RC0201JR-071KL_C131396.html?s_z=n_RC0201JR-071KL; Value: 1 kOhm; Package: 0201 (0603 Metric); Tolerance: ±5%; Operating Temperature: -55°C ~ 125°C; Supplier 1: Future Electronics; Supplier Part Number 1: 8889099
footprint R0201
pins: 1, 2

## RC0201JR-071R1L
designator R?, comment 1.1 Ohm
RES 1.1 OHM 5% 1/20W 0201; Manufacturer: Yageo; Part Number: RC0201JR-071R1L; Power (Watt): 0.05W; Value: 1.1 Ohm; Package: 0201 (0603 Metric); Tolerance: ±5%; Operating Temperature: -55°C ~ 125°C; ComponentLink1Description: Datasheet; ComponentLink1URL: https://www.yageo.com/upload/media/product/products/datasheet/rchip/PYu-RC_Group_51_RoHS_L_12.pdf; ComponentLink2Description: Digikey link; ComponentLink2URL: https://www.digikey.com/en/products/detail/yageo/RC0201JR-071R1L/5280734; ComponentLink3Description: LCSC link; Supplier 1: Digikey; Supplier Part Number 1: YAG2874CT-ND
footprint R0201
pins: 1, 2

## RC0201JR-071R2L
designator R?, comment 1.2 Ohm
RES 1.2 OHM 5% 1/20W 0201; Manufacturer: Yageo; Part Number: RC0201JR-071R2L; Power (Watt): 0.05W; Value: 1.2 Ohm; Package: 0201 (0603 Metric); Tolerance: ±5%; Operating Temperature: -55°C ~ 125°C; ComponentLink1Description: Datasheet; ComponentLink1URL: https://www.yageo.com/upload/media/product/products/datasheet/rchip/PYu-RC_Group_51_RoHS_L_12.pdf; ComponentLink2Description: Digikey link; ComponentLink2URL: https://www.digikey.com/en/products/detail/yageo/RC0201JR-071R2L/5280735; ComponentLink3Description: LCSC link; ComponentLink3URL: https://lcsc.com/product-detail/Chip-Resistor-Surface-Mount_YAGEO-RC0201JR-071R2L_C163496.html?s_z=n_RC0201JR-071R2L; Supplier 1: Digikey; Supplier Part Number 1: YAG2875CT-ND
footprint R0201
pins: 1, 2

## RC0201JR-071R3L
designator R?, comment 1.3 Ohm
RES 1.3 OHM 5% 1/20W 0201; Manufacturer: Yageo; Part Number: RC0201JR-071R3L; Power (Watt): 0.05W; ComponentLink1Description: Datasheet; ComponentLink1URL: https://www.yageo.com/upload/media/product/products/datasheet/rchip/PYu-RC_Group_51_RoHS_L_12.pdf; ComponentLink2Description: Digikey link; ComponentLink2URL: https://www.digikey.com/en/products/detail/yageo/RC0201JR-071R3L/5280736; ComponentLink3Description: LCSC link; ComponentLink3URL: *; Value: 1.3 Ohm; Package: 0201 (0603 Metric); Tolerance: ±5%; Operating Temperature: -55°C ~ 125°C; Supplier 1: Digikey; Supplier Part Number 1: 13-RC0201JR-071R3LCT-ND
footprint R0201
pins: 1, 2

## RC0201JR-071R5L
designator R?, comment 1.5 Ohm
RES 1.5 OHM 5% 1/20W 0201; Manufacturer: Yageo; Part Number: RC0201JR-071R5L; Power (Watt): 0.05W; ComponentLink1Description: Datasheet; ComponentLink1URL: https://www.yageo.com/upload/media/product/products/datasheet/rchip/PYu-RC_Group_51_RoHS_L_12.pdf; ComponentLink2Description: Digikey link; ComponentLink2URL: https://www.digikey.com/en/products/detail/yageo/RC0201JR-071R5L/5280737; ComponentLink3Description: LCSC link; ComponentLink3URL: https://lcsc.com/product-detail/Chip-Resistor-Surface-Mount_YAGEO-RC0201JR-071R5L_C474478.html?s_z=n_RC0201JR-071R5L; Value: 1.5 Ohm; Package: 0201 (0603 Metric); Tolerance: ±5%; Operating Temperature: -55°C ~ 125°C; Supplier 1: Digikey; Supplier Part Number 1: YAG2877CT-ND
footprint R0201
pins: 1, 2

## RC0201JR-071R6L
designator R?, comment 1.6 Ohm
RES 1.6 OHM 5% 1/20W 0201; Manufacturer: Yageo; Part Number: RC0201JR-071R6L; Power (Watt): 0.05W; ComponentLink1Description: Datasheet; ComponentLink1URL: https://www.yageo.com/upload/media/product/products/datasheet/rchip/PYu-RC_Group_51_RoHS_L_12.pdf; ComponentLink2Description: Digikey link; ComponentLink2URL: https://www.digikey.com/en/products/detail/yageo/RC0201JR-071R6L/5280738; ComponentLink3Description: LCSC link; ComponentLink3URL: *; Value: 1.6 Ohm; Package: 0201 (0603 Metric); Tolerance: ±5%; Operating Temperature: -55°C ~ 125°C; Supplier 1: Digikey; Supplier Part Number 1: YAG2878CT-ND
footprint R0201
pins: 1, 2

## RC0201JR-071R8L
designator R?, comment 1.8 Ohm
RES 1.8 OHM 5% 1/20W 0201; Manufacturer: Yageo; Part Number: RC0201JR-071R8L; Power (Watt): 0.05W; ComponentLink1Description: Datasheet; ComponentLink1URL: https://www.yageo.com/upload/media/product/products/datasheet/rchip/PYu-RC_Group_51_RoHS_L_12.pdf; ComponentLink2Description: Digikey link; ComponentLink2URL: https://www.digikey.com/en/products/detail/yageo/RC0201JR-071R8L/5280739; ComponentLink3Description: LCSC link; ComponentLink3URL: *; Value: 1.8 Ohm; Package: 0201 (0603 Metric); Tolerance: ±5%; Operating Temperature: -55°C ~ 125°C; Supplier 1: Digikey; Supplier Part Number 1: YAG2879CT-ND
footprint R0201
pins: 1, 2

## RC0201JR-071RL
designator R?, comment 1 Ohm
RES 1 OHM 5% 1/20W 0201; Manufacturer: Yageo; Part Number: RC0201JR-070RL; Power (Watt): 50mW; Value: 1 Ohm; Package: 0201 (0603 Metric); Tolerance: ±5%; Operating Temperature: -55℃~+125℃; ComponentLink1Description: Datasheet; ComponentLink1URL: https://www.yageo.com/upload/media/product/products/datasheet/rchip/PYu-RC_Group_51_RoHS_L_12.pdf; ComponentLink2Description: Digikey link; ComponentLink2URL: https://www.digikey.com/en/products/detail/yageo/RC0201JR-071RL/5917138?s=N4IgTCBcDaIEoGEAMYkEYBScC0SDsacAMiALoC%2BQA; ComponentLink3Description: LCSC link; ComponentLink3URL: https://lcsc.com/product-detail/Chip-Resistor-Surface-Mount_YAGEO-RC0201JR-071RL_C142013.html?s_z=n_1R%25200201%2520resistor%2520yageo; Supplier 1: Digikey; Supplier Part Number 1: 13-RC0201JR-071RLCT-ND
footprint R0201
pins: 1, 2

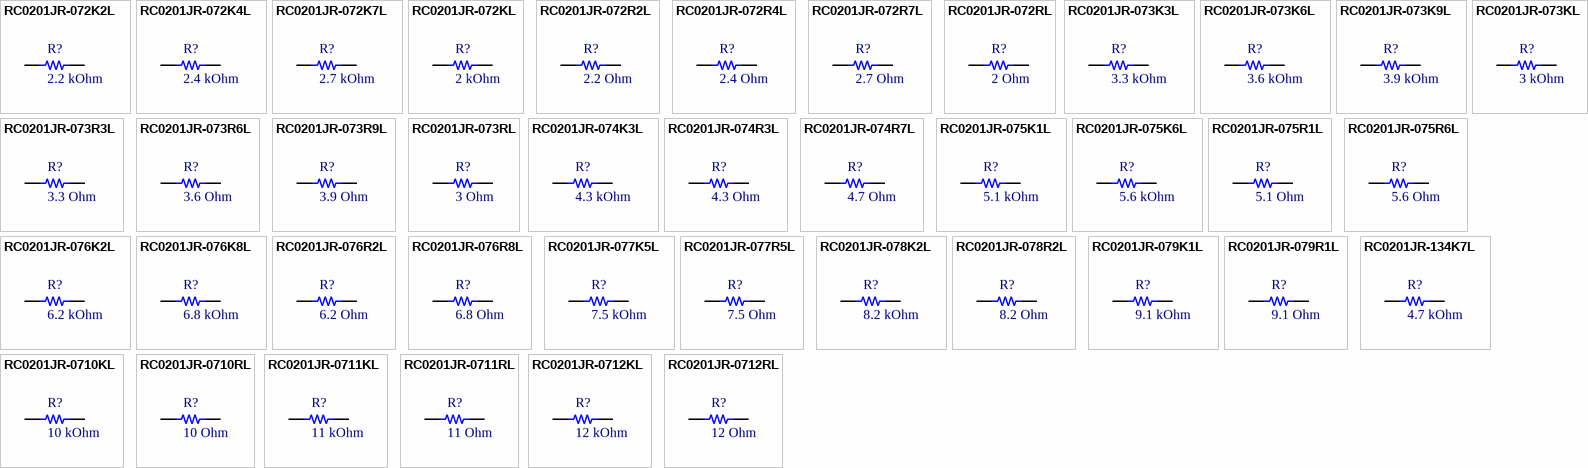
[diagram p5: symbols RC0201JR-072K2L to RC0201JR-0712RL]

## RC0201JR-072K2L
designator R?, comment 2.2 kOhm
RES 2.2K OHM 5% 1/20W 0201; Manufacturer: Yageo; Part Number: RC0201JR-072K2L; Power (Watt): 0.05W; ComponentLink1Description: Datasheet; ComponentLink1URL: https://www.yageo.com/upload/media/product/products/datasheet/rchip/PYu-RC_Group_51_RoHS_L_12.pdf; ComponentLink2Description: Digikey link; ComponentLink2URL: https://www.digikey.com/en/products/detail/yageo/RC0201JR-072K2L/1948938; ComponentLink3Description: LCSC link; ComponentLink3URL: https://lcsc.com/product-detail/Chip-Resistor-Surface-Mount_YAGEO-RC0201JR-072K2L_C138109.html?s_z=n_RC0201JR-072K2L; Value: 2.2 kOhm; Package: 0201 (0603 Metric); Tolerance: ±5%; Operating Temperature: -55°C ~ 125°C; Supplier 1: Future Electronics; Supplier Part Number 1: 3342789
footprint R0201
pins: 1, 2

## RC0201JR-072K4L
designator R?, comment 2.4 kOhm
RES 2.4K OHM 5% 1/20W 0201; Manufacturer: Yageo; Part Number: RC0201JR-072K4L; Power (Watt): 0.05W; ComponentLink1Description: Datasheet; ComponentLink1URL: https://www.yageo.com/upload/media/product/products/datasheet/rchip/PYu-RC_Group_51_RoHS_L_12.pdf; ComponentLink2Description: Digikey link; ComponentLink2URL: https://www.digikey.com/en/products/detail/yageo/RC0201JR-072K4L/5280740; ComponentLink3Description: LCSC link; ComponentLink3URL: https://lcsc.com/product-detail/Chip-Resistor-Surface-Mount_YAGEO-RC0201JR-072K4L_C295845.html?s_z=n_RC0201JR-072K4L; Value: 2.4 kOhm; Package: 0201 (0603 Metric); Tolerance: ±5%; Operating Temperature: -55°C ~ 125°C; Supplier 1: Digikey; Supplier Part Number 1: YAG2880CT-ND
footprint R0201
pins: 1, 2

## RC0201JR-072K7L
designator R?, comment 2.7 kOhm
RES 2.7K OHM 5% 1/20W 0201; Manufacturer: Yageo; Part Number: RC0201JR-072K7L; Power (Watt): 0.05W; ComponentLink1Description: Datasheet; ComponentLink1URL: https://www.yageo.com/upload/media/product/products/datasheet/rchip/PYu-RC_Group_51_RoHS_L_12.pdf; ComponentLink2Description: Digikey link; ComponentLink2URL: https://www.digikey.com/en/products/detail/yageo/RC0201JR-072K7L/5280741; ComponentLink3Description: LCSC link; ComponentLink3URL: https://lcsc.com/product-detail/Chip-Resistor-Surface-Mount_YAGEO-RC0201JR-072K7L_C138108.html?s_z=n_RC0201JR-072K7L; Value: 2.7 kOhm; Package: 0201 (0603 Metric); Tolerance: ±5%; Operating Temperature: -55°C ~ 125°C; Supplier 1: Digikey; Supplier Part Number 1: YAG2881CT-ND
footprint R0201
pins: 1, 2

## RC0201JR-072KL
designator R?, comment 2 kOhm
RES 2K OHM 5% 1/20W 0201; Manufacturer: Yageo; Part Number: RC0201JR-072KL; Power (Watt): 0.05W; ComponentLink1Description: Datasheet; ComponentLink1URL: https://www.yageo.com/upload/media/product/products/datasheet/rchip/PYu-RC_Group_51_RoHS_L_12.pdf; ComponentLink2Description: Digikey link; ComponentLink2URL: https://www.digikey.com/en/products/detail/yageo/RC0201JR-072KL/1948939; ComponentLink3Description: LCSC link; ComponentLink3URL: https://lcsc.com/product-detail/Chip-Resistor-Surface-Mount_YAGEO-RC0201JR-072KL_C138107.html?s_z=n_RC0201JR-072KL; Value: 2 kOhm; Package: 0201 (0603 Metric); Tolerance: ±5%; Operating Temperature: -55°C ~ 125°C; Supplier 1: Future Electronics; Supplier Part Number 1: 6675359
footprint R0201
pins: 1, 2

## RC0201JR-072R2L
designator R?, comment 2.2 Ohm
RES 2.2 OHM 5% 1/20W 0201; Manufacturer: Yageo; Part Number: RC0201JR-072R2L; Power (Watt): 0.05W; ComponentLink1Description: Datasheet; ComponentLink1URL: https://www.yageo.com/upload/media/product/products/datasheet/rchip/PYu-RC_Group_51_RoHS_L_12.pdf; ComponentLink2Description: Digikey link; ComponentLink2URL: https://www.digikey.com/en/products/detail/yageo/RC0201JR-072R2L/5280746; ComponentLink3Description: LCSC link; ComponentLink3URL: https://lcsc.com/product-detail/Chip-Resistor-Surface-Mount_YAGEO-RC0201JR-072R2L_C474415.html?s_z=n_RC0201JR-072R2L; Value: 2.2 Ohm; Package: 0201 (0603 Metric); Tolerance: ±5%; Operating Temperature: -55°C ~ 125°C; Supplier 1: Future Electronics; Supplier Part Number 1: 9673070
footprint R0201
pins: 1, 2

## RC0201JR-072R4L
designator R?, comment 2.4 Ohm
RES 2.4 OHM 5% 1/20W 0201; Manufacturer: Yageo; Part Number: RC0201JR-072R4L; Power (Watt): 0.05W; ComponentLink1Description: Datasheet; ComponentLink1URL: https://www.yageo.com/upload/media/product/products/datasheet/rchip/PYu-RC_Group_51_RoHS_L_12.pdf; ComponentLink2Description: Digikey link; ComponentLink2URL: https://www.digikey.com/en/products/detail/yageo/RC0201JR-072R4L/5280747; ComponentLink3Description: LCSC link; ComponentLink3URL: *; Value: 2.4 Ohm; Package: 0201 (0603 Metric); Tolerance: ±5%; Operating Temperature: -55°C ~ 125°C; Supplier 1: Digikey; Supplier Part Number 1: YAG2887CT-ND
footprint R0201
pins: 1, 2

## RC0201JR-072R7L
designator R?, comment 2.7 Ohm
RES 2.7 OHM 5% 1/20W 0201; Manufacturer: Yageo; Part Number: RC0201JR-072R7L; Power (Watt): 0.05W; ComponentLink1Description: Datasheet; ComponentLink1URL: https://www.yageo.com/upload/media/product/products/datasheet/rchip/PYu-RC_Group_51_RoHS_L_12.pdf; ComponentLink2Description: Digikey link; ComponentLink2URL: https://www.digikey.com/en/products/detail/yageo/RC0201JR-072R7L/5280748; ComponentLink3Description: LCSC link; ComponentLink3URL: https://lcsc.com/product-detail/Chip-Resistor-Surface-Mount_YAGEO-RC0201JR-072R7L_C327376.html?s_z=n_RC0201JR-072R7L; Value: 2.7 Ohm; Package: 0201 (0603 Metric); Tolerance: ±5%; Operating Temperature: -55°C ~ 125°C; Supplier 1: Mouser; Supplier Part Number 1: 603-RC0201JR-072R7L
footprint R0201
pins: 1, 2